# Altium schematic symbol library E2200CS021.Schlib: 1 symbol
Pins are listed as number, name and electrical type; pins without a type are passive.

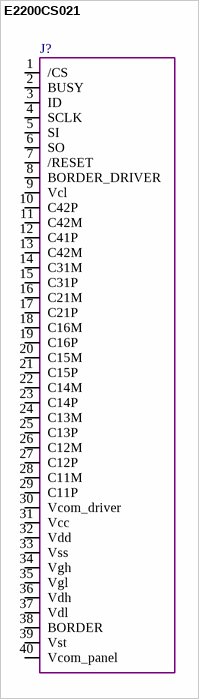
[diagram p0: symbol E2200CS021]

## E2200CS021
designator J?  (value not drawn)
pins: 1 /CS, 2 BUSY, 3 ID, 4 SCLK, 5 SI, 6 SO, 7 /RESET, 8 BORDER_DRIVER, 9 Vcl, 10 C42P, 11 C42M, 12 C41P, 13 C42M, 14 C31M, 15 C31P, 16 C21M, 17 C21P, 18 C16M, 19 C16P, 20 C15M, 21 C15P, 22 C14M, 23 C14P, 24 C13M, 25 C13P, 26 C12M, 27 C12P, 28 C11M, 29 C11P, 30 Vcom_driver, 31 Vcc, 32 Vdd, 33 Vss, 34 Vgh, 35 Vgl, 36 Vdh, 37 Vdl, 38 BORDER, 39 Vst, 40 Vcom_panel
2 alternate drawings of the same symbol